# Altium footprint library surfaceMount.PcbLib: 37 footprints (part 3 of 3)
Each footprint in its own frame and in the unit in brackets; x right, y up, seen from the top. Pads: shape width x height; smd on the part's side, far side on the other; paste and mask are expansions set on the pad; w line width, h text height; cw(c..) or ccw(c..) is an arc to the next point about the centre after c.
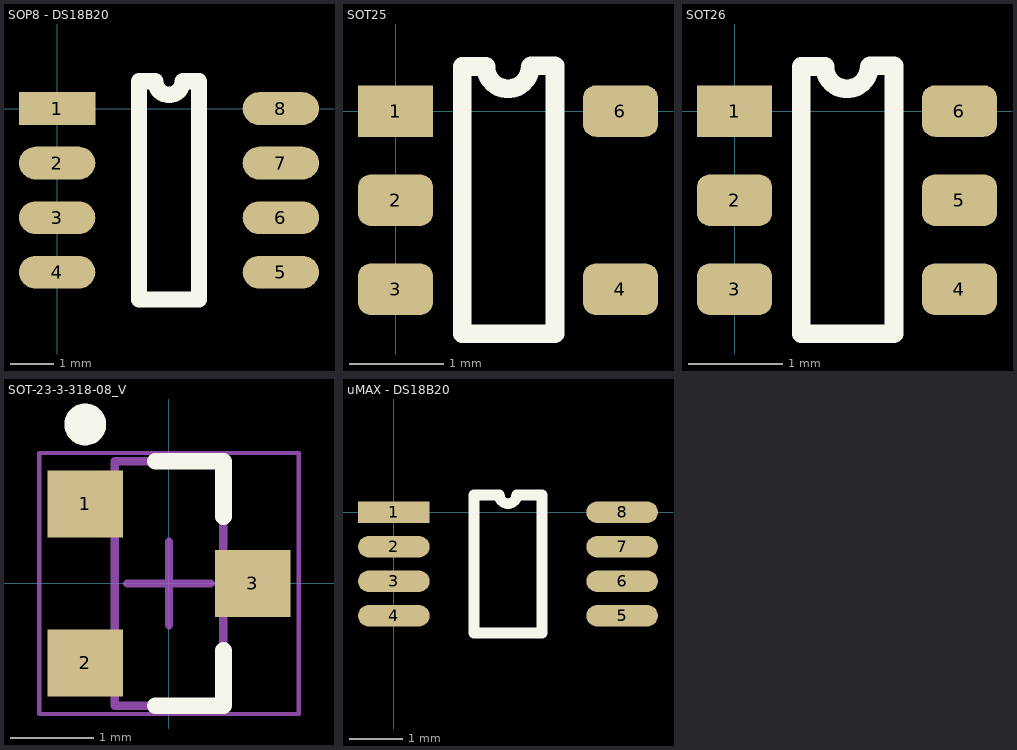
[diagram p2: the footprints below, top view; thin cyan lines are the x and y axes]

## SOP8 - DS18B20 [mil]
pads (8):
  rect 70x30 smd: 1(0,0)
  oval 70x30 smd: 2(0,-50) 3(0,-100) 4(0,-150) 5(205,-150) 6(205,-100) 7(205,-50) 8(205,0)
Top Overlay:
  lines w15: 75,-175 75,25 90,25 ccw(c102.5,25) 115,25 130,25 130,-175 75,-175
3D body "User Library-so8-3.STEP": height 66.93, standoff 0, extent -14.76,-170.27 221.46,22.64

## SOT25 [mm]
pads (5):
  rect 0.8x0.55 smd: 1(0,0)
  rrect50% 0.8x0.55 smd: 2(0,-0.95) 3(0,-1.9) 4(2.4,-1.9) 6(2.4,0)
Top Overlay:
  lines w0.2: 0.962,0.475 ccw(c1.2,0.475) 1.438,0.475 ; 0.965,0.475 0.711,0.475 0.711,-2.375 1.702,-2.375 1.702,0.483 1.448,0.483

## SOT26 [mm]
pads (6):
  rect 0.8x0.55 smd: 1(0,0)
  rrect50% 0.8x0.55 smd: 2(0,-0.95) 3(0,-1.9) 4(2.4,-1.9) 5(2.4,-0.95) 6(2.4,0)
Top Overlay:
  lines w0.2: 0.962,0.475 ccw(c1.2,0.475) 1.438,0.475 ; 0.965,0.475 0.711,0.475 0.711,-2.375 1.702,-2.375 1.702,0.483 1.448,0.483

## SOT-23-3-318-08_V [mm] "SOT23, 3-Leads, Body 2.92x1.3mm, Pitch 0.95mm"
height 1.11
pads (3):
  rect 0.9x0.8 smd: 1(-1,0.95) 2(-1,-0.95) 3(1,0)
Top Overlay:
  circle w0.25: c-1,1.9 r0.125
  lines w0.2: -0.165,-1.46 0.65,-1.46 0.65,-0.8 ; -0.165,1.46 0.65,1.46 0.65,0.8
Mechanical 13:
  lines w0.1: -0.65,-1.46 -0.65,1.46 0.65,1.46 0.65,-1.46 -0.65,-1.46
Mechanical 15:
  lines w0.05: -1.55,-1.56 -1.55,1.56 1.55,1.56 1.55,-1.56 -1.55,-1.56
  lines w0.1: -0.5,0 0.5,0 ; 0,-0.5 0,0.5
3D body: height 1.11, standoff 0.01, extent -0.65,-1.46 0.65,1.46

## uMAX - DS18B20 [mm]
pads (8):
  rect 1.35x0.4 smd: 1(0,0)
  oval 1.35x0.4 smd: 2(0,-0.65) 3(0,-1.3) 4(0,-1.95) 5(4.3,-1.95) 6(4.3,-1.3) 7(4.3,-0.65) 8(4.3,0)
Top Overlay:
  lines w0.2: 1.51,-2.275 1.51,0.325 1.987,0.325 ccw(c2.15,0.325) 2.312,0.325 2.79,0.325 2.79,-2.275 1.51,-2.275
3D body "SW3dPS-uMAX8.STEP": height 0.95, standoff 0, extent -0.35,-2.5 4.65,0.5